# Altium footprint library CSD87503Q3ET.PCBLIB: 1 footprints
Each footprint in its own frame and in the unit in brackets; x right, y up, seen from the top. Pads: shape width x height; smd on the part's side, far side on the other; paste and mask are expansions set on the pad; w line width, h text height; cw(c..) or ccw(c..) is an arc to the next point about the centre after c.
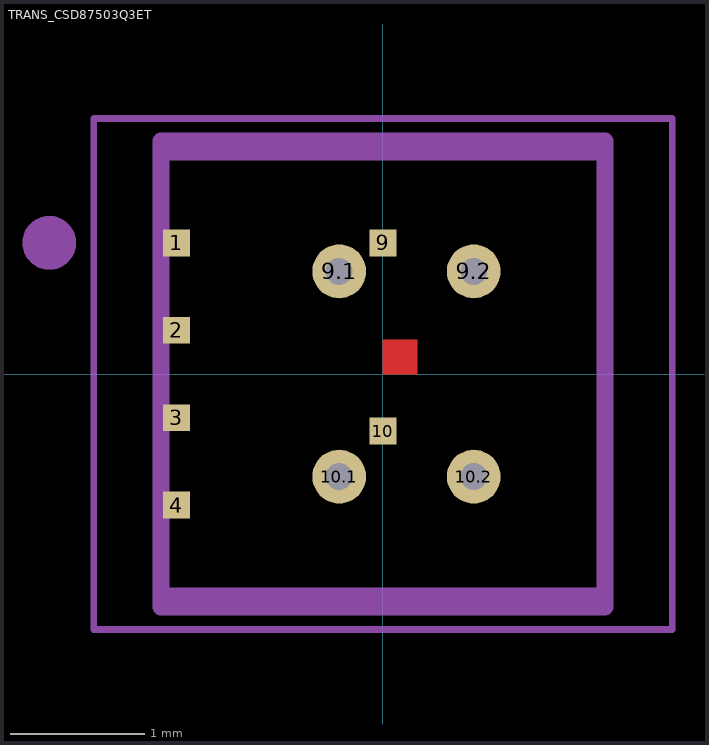
[diagram p0: the footprint, top view; thin cyan lines are the x and y axes]

## TRANS_CSD87503Q3ET [mm]
pads (10):
  rect 0.2x0.2 smd paste+0 mask+0: 1(-1.535,0.975) 2(-1.535,0.325) 3(-1.535,-0.325) 4(-1.535,-0.975) 9(0,0.975) 10(0,-0.425)
  round 0.4 / inner round 1.524 / far side round 0.4 hole 0.2: 9.1(-0.325,0.763) 9.2(0.675,0.763) 10.1(-0.325,-0.763) 10.2(0.675,-0.763)
Top Layer:
  region: 0,0 0.254,0 0.254,0.254 0,0.254
  region: 0,0 0.254,0 0.254,0.254 0,0.254
  region: 0,0 0.254,0 0.254,0.254 0,0.254
  region: 0,0 0.254,0 0.254,0.254 0,0.254
  region: 0,0 0.254,0 0.254,0.254 0,0.254
  region: 0,0 0.254,0 0.254,0.254 0,0.254
Top Paste:
  region: 0,0 0.254,0 0.254,0.254 0,0.254
  region: 0,0 0.254,0 0.254,0.254 0,0.254
  region: 0,0 0.254,0 0.254,0.254 0,0.254
  region: 0,0 0.254,0 0.254,0.254 0,0.254
  region: 0,0 0.254,0 0.254,0.254 0,0.254
  region: 0,0 0.254,0 0.254,0.254 0,0.254
  region: 0,0 0.254,0 0.254,0.254 0,0.254
  region: 0,0 0.254,0 0.254,0.254 0,0.254
  region: 0,0 0.254,0 0.254,0.254 0,0.254
  region: 0,0 0.254,0 0.254,0.254 0,0.254
Top Solder:
  region: 0,0 0.254,0 0.254,0.254 0,0.254
  region: 0,0 0.254,0 0.254,0.254 0,0.254
  region: 0,0 0.254,0 0.254,0.254 0,0.254
  region: 0,0 0.254,0 0.254,0.254 0,0.254
  region: 0,0 0.254,0 0.254,0.254 0,0.254
  region: 0,0 0.254,0 0.254,0.254 0,0.254
Assembly Top:
  circle w0.2: c-2.48,0.975 r0.1
  lines w0.127: -1.65,-1.65 1.65,-1.65 1.65,1.65 -1.65,1.65 -1.65,-1.65
Mechanical 22:
  circle w0.2: c-2.48,0.975 r0.1
  lines w0.127: -1.65,-1.5 -1.65,-1.73 1.65,-1.73 1.65,-1.5 ; -1.65,1.5 -1.65,1.73 1.65,1.73 1.65,1.5
Mechanical 30:
  lines w0.05: -2.15,-1.9 2.15,-1.9 2.15,1.9 -2.15,1.9 -2.15,-1.9